# EAGLE library part OPA1688 (library TI)
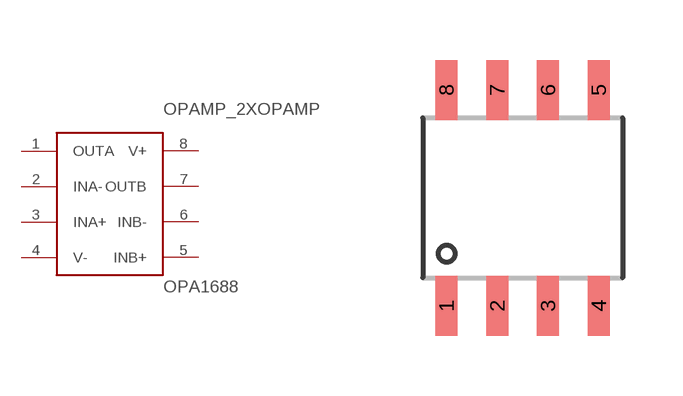
[diagram p0: symbol with the pads of SOIC-8; footprint SOIC-8]

Designator prefix OPAMP; gates _2XOPAMP=OPA8PINBODY 1=OUTAL 3=INA+L 4=V-L 8=V+R 2=INA-L 7=OUTBR 6=INB-R 5=INB+R

## OPA1688  [SOIC-8]
1  1:OUTA
2  2:INA-
3  3:INA+
4  4:V-
5  5:INB+
6  6:INB-
7  7:OUTB
8  8:V+

## Footprint SOIC-8 (pad centres in mm)
smd 0.55 x 1.5: 1 -1.905,-2.7; 2 -0.635,-2.7; 3 0.635,-2.7; 4 1.905,-2.7; 5 1.905,2.7; 6 0.635,2.7; 7 -0.635,2.7; 8 -1.905,2.7